# Altium footprint library Switches.PcbLib: 7 footprints
Each footprint in its own frame and in the unit in brackets; x right, y up, seen from the top. Pads: shape width x height; smd on the part's side, far side on the other; paste and mask are expansions set on the pad; w line width, h text height; cw(c..) or ccw(c..) is an arc to the next point about the centre after c.
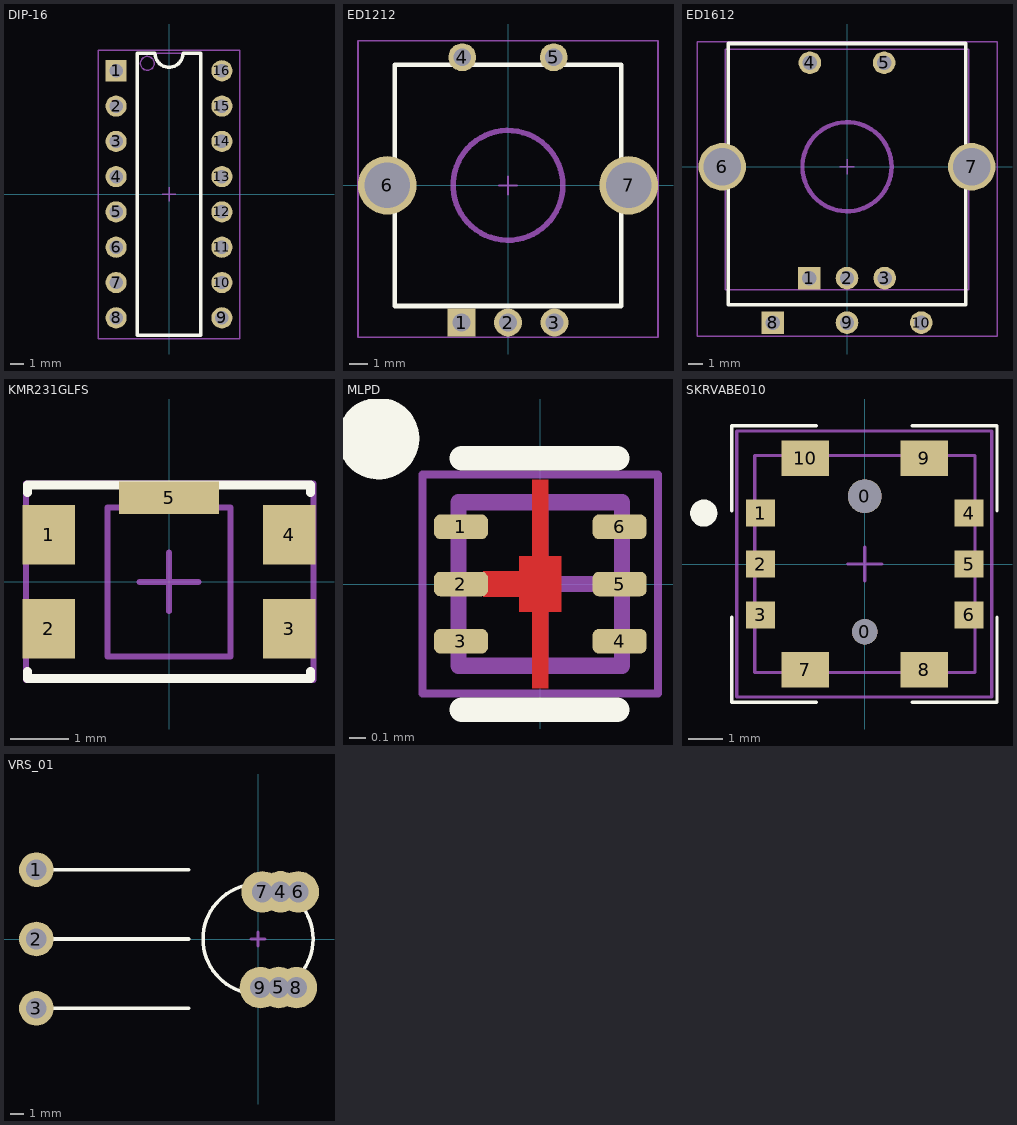
[diagram p0: the footprints below, top view; thin cyan lines are the x and y axes]

## DIP-16 [mil]
pads (16):
  rect 60x60 hole 38: 1(-150,350)
  round 60 hole 38: 2(-150,250) 3(-150,150) 4(-150,50) 5(-150,-50) 6(-150,-150) 7(-150,-250) 8(-150,-350) 9(150,-350) 10(150,-250) 11(150,-150) 12(150,-50) 13(150,50) 14(150,150) 15(150,250) 16(150,350)
Top Overlay:
  lines w10: -90,-400 90,-400 90,400 40,400 cw(c0,400) -40,400 -90,400 -90,-400
Mechanical 13:
  circle w3.94: c-61.34,371.02 r19.68
  lines w3.94: -90,-400 90,-400 90,400 -90,400 -90,-400
  text ".Designator" at -40,5 h19.68
Mechanical 15:
  lines w3.94: -19.68,0 19.68,0 ; 0,-19.68 0,19.68 ; -200,-410 200,-410 200,408.27 -200,408.27 -200,-410
3D body: height 68.9, standoff 9.84, extent -90,-400 90,400

## ED1212 [mm]
pads (7):
  rect 1.524x1.524 hole 0.965: 1(-2.54,-7.5)
  round 1.524 hole 0.965: 2(0,-7.5) 3(2.54,-7.5) 4(-2.5,7) 5(2.5,7)
  round 3.2 hole 2.5: 6(-6.6,0) 7(6.6,0)
Top Overlay:
  lines w0.254: -6.2,-6.6 6.2,-6.6 6.2,6.6 2.186,6.6 -2.386,6.6 -6.2,6.6 -6.2,-6.6
Mechanical 13:
  circle w0.3: c0,0 r3
  lines w0.1: -6.2,-6.6 -6.2,6.6 6.2,6.6 6.2,-6.6 -6.2,-6.6
  text ".Designator" at -1.9,3.8 h0.5
Mechanical 15:
  lines w0.1: -0.5,0 0.5,0 ; 0,-0.5 0,0.5 ; -8.2,-8.3 -8.2,7.9 8.2,7.9 8.2,-8.3 -8.2,-8.3
3D body: height 6, standoff 0.25, extent -6.2,-6.6 6.2,6.6
3D body: height 15, standoff 0, extent -2.988,-3 2.988,2.988

## ED1612 [mil]
pads (10):
  rect 60x60 hole 38: 1(-100,-295.28) 8(-196.85,-413.39)
  round 60 hole 38: 2(0,-295.28) 3(100,-295.28) 4(-98.43,275.59) 5(98.43,275.59) 9(0,-413.39) 10(196.85,-413.39)
  round 125.98 hole 98.43: 6(-330.71,0) 7(330.71,0)
Top Overlay:
  lines w10: -314.96,-366.14 314.96,-366.14 314.96,283.46 314.96,326.77 -314.96,326.77 -314.96,-366.14
Mechanical 13:
  circle w11.81: c0,0 r118.11
  lines w3.94: -314.96,-366.14 -314.96,326.77 314.96,326.77 314.96,-366.14 -314.96,-366.14
  text ".Designator" at -74.8,149.61 h19.68
Mechanical 15:
  lines w3.94: -397.64,-448.82 -397.64,330.71 397.64,330.71 397.64,-448.82 -397.64,-448.82 ; -322.83,-326.77 322.83,-326.77 322.83,311.02 -322.83,311.02 -322.83,-326.77 ; -19.68,0 19.68,0 -19.68,0 ; 0,-19.68 0,19.68 0,-19.68
3D body: height 590.55, standoff 0, extent -117.64,-118.11 117.64,117.64
3D body: height 314.96, standoff 9.84, extent -314.96,-366.14 314.96,326.77

## KMR231GLFS [mil] "KMR231GLFS"
pads (5):
  rect 35x40 smd mask+2.1: 1(-80.71,31.5) 2(-80.71,-31.5) 3(80.71,-31.5) 4(80.71,31.5)
  rect 67x22 smd mask+2.1: 5(0,56.5)
Top Overlay:
  lines w6: -95,-60 -95,-65 95,-65 95,-60 ; -95,60 -95,65 95,65 95,60
Mechanical 13:
  lines w3.94: -41.34,-50 41.34,-50 41.34,50 -41.34,50 -41.34,-50
  text ".Designator" at -70,65 h19.68
Mechanical 15:
  lines w3.94: -19.68,0 19.69,0 ; 0,-19.68 0,19.68 ; -96,-66 97,-66 97,66 -96,66 -96,-66
3D body: height 82.68, standoff 0, extent -90.54,-59.05 90.56,59.06

## MLPD [mm]
height 0.5
pads (6):
  rrect50% 0.33x0.15 smd paste+0 mask+0.04: 1(-0.485,0.35) 2(-0.485,0) 3(-0.485,-0.35) 4(0.485,-0.35) 5(0.485,0) 6(0.485,0.35)
Top Layer:
  rectangle: -0.05,-0.64 0.05,-0.14
  rectangle: -0.05,0.14 0.05,0.64
  rectangle: -0.35,-0.08 0.13,0.08
  rectangle: -0.13,-0.17 0.13,0.17
Top Overlay:
  circle w0.25: c-0.99,0.89 r0.125
  lines w0.15: -0.48,-0.77 0.47,-0.77 ; -0.48,0.77 0.47,0.77
Mechanical 13:
  lines w0.1: -0.5,-0.5 0.5,-0.5 0.5,0.5 -0.5,0.5 -0.5,-0.5
Mechanical 15:
  lines w0.05: -0.72,-0.67 0.72,-0.67 0.72,0.67 -0.72,0.67 -0.72,-0.67
  lines w0.1: -0.5,0 0.5,0 ; 0,-0.5 0,0.5
3D body: height 0.5, standoff 0.09, extent -0.5,-0.5 0.5,0.5

## SKRVABE010 [mm] "Low Profile 4-direction Joystick with Center-push Function"
pads (12):
  round 0.75 hole 0.75 unplated mask+0: 0(0,-2)
  round 1 hole 1 unplated mask+0: 0(0,2)
  rect 0.85x0.8 smd mask+0.053: 1(-3.075,1.5) 2(-3.075,0) 3(-3.075,-1.5) 4(3.075,1.5) 5(3.075,0) 6(3.075,-1.5)
  rect 1.4x1.05 smd mask+0.053: 7(-1.75,-3.125) 8(1.75,-3.125) 9(1.75,3.125) 10(-1.75,3.125)
Top Overlay:
  circle w0.4: c-4.75,1.5 r0.2
  lines w0.1: -3.925,1.575 -3.925,4.075 -1.425,4.075 ; -3.925,-1.575 -3.925,-4.075 -1.425,-4.075 ; 1.4,-4.075 3.9,-4.075 3.9,-1.575 ; 1.4,4.075 3.9,4.075 3.9,1.575
Mechanical 13:
  lines w0.1: -3.25,-3.2 3.25,-3.2 3.25,3.2 -3.25,3.2 -3.25,-3.2
  text "Designator" at -1.875,4.5 h0.5
Mechanical 15:
  lines w0.1: -3.775,3.925 -3.775,-3.925 3.75,-3.925 3.75,3.925 ; -3.75,3.925 3.725,3.925 ; -0.5,0 0.5,0 ; 0,-0.5 0,0.5
3D body: height 4, standoff -0.5, extent -3.248,-3.211 3.198,3.211

## VRS_01 [mm] "VRS"
pads (9):
  round 2.5 hole 1.5: 1(-16,5) 2(-16,0) 3(-16,-5)
  round 3 hole 1.5: 4(1.628,3.404) 5(1.5,-3.5) 6(2.9,3.4) 7(0.3,3.4) 8(2.772,-3.504) 9(0.172,-3.504)
Top Overlay:
  circle w0.254: c0,0 r3.968
  lines w0.254: -15,-5 -5,-5 ; -15,0 -5,0 ; -15,5 -5,5
Mechanical 13:
  text ".Designator" at -2,0 h0.5
Mechanical 15:
  lines w0.2: -0.5,0 0.5,0 ; 0,-0.5 0,0.5
3D body: height 30, standoff 0, extent -3.968,-3.992 4,3.992